# Altium schematic symbol library TPS72748DSER.SchLib: 1 symbol
Pins are listed as number, name and electrical type; pins without a type are passive.

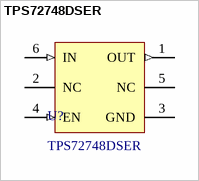
[diagram p0: symbol TPS72748DSER]

## TPS72748DSER
designator U?
=Description
pins: 1 OUT (out), 2 NC, 3 GND (power), 4 EN (in), 5 NC, 6 IN (in)